# Altium footprint library 58.13.0093_400_Rev00.PcbLib: 46 footprints (part 3 of 3)
Each footprint in its own frame and in the unit in brackets; x right, y up, seen from the top. Pads: shape width x height; smd on the part's side, far side on the other; paste and mask are expansions set on the pad; w line width, h text height; cw(c..) or ccw(c..) is an arc to the next point about the centre after c.
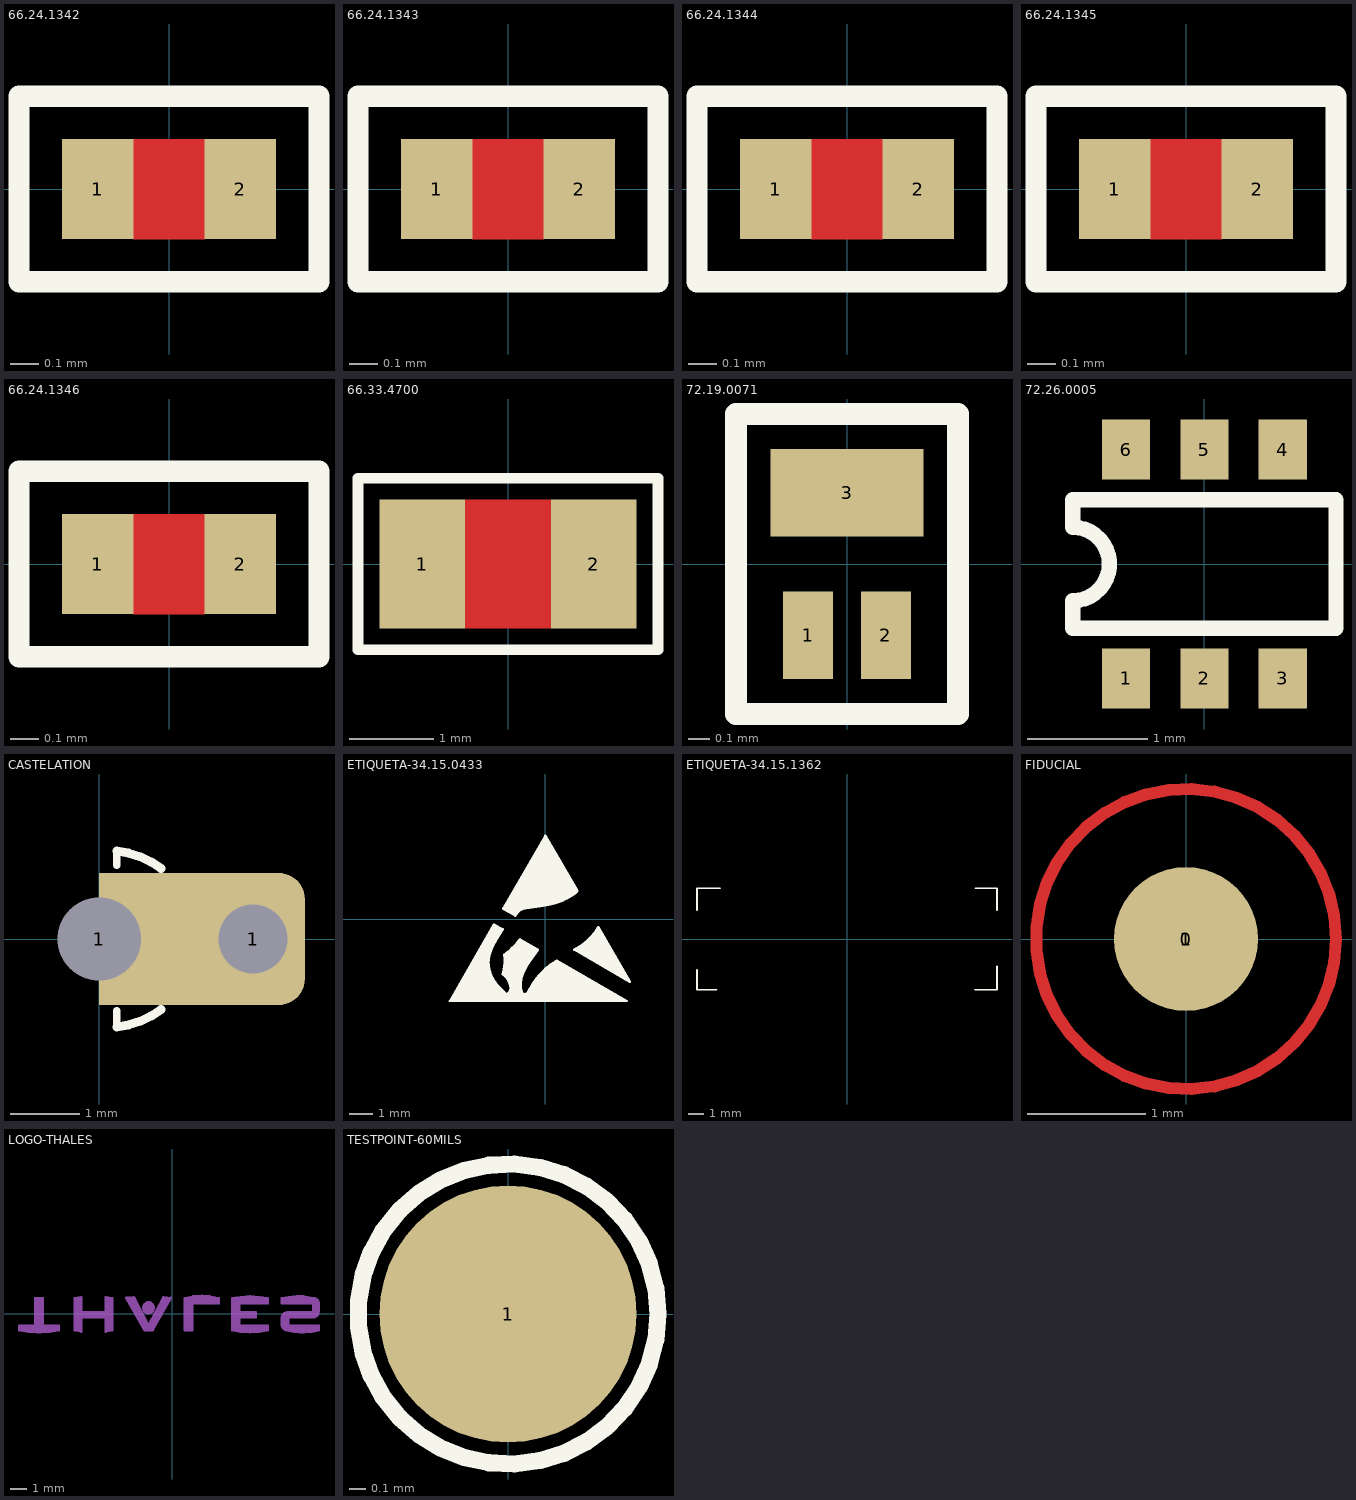
[diagram p2: the footprints below, top view; thin cyan lines are the x and y axes]

## 66.24.1342 [mil]
pads (2):
  rect 10x14 smd: 1(-10,0) 2(10,0)
Top Layer:
  pour cut-out: -5,7 5,7 5,-7 -5,-7
Top Overlay:
  lines w3: -21,-13 21,-13 21,13 -21,13 -21,-13
3D body "0201 Res.step": height 12.1, standoff 0, extent -11.99,-6 12.01,6

## 66.24.1343 [mil]
pads (2):
  rect 10x14 smd: 1(-10,0) 2(10,0)
Top Layer:
  pour cut-out: -5,7 5,7 5,-7 -5,-7
Top Overlay:
  lines w3: -21,-13 -21,13 21,13 21,-13 -21,-13
3D body "0201 Res.step": height 12.1, standoff 0, extent -11.99,-6 12.01,6

## 66.24.1344 [mil]
pads (2):
  rect 10x14 smd: 1(-10,0) 2(10,0)
Top Layer:
  pour cut-out: -5,7 5,7 5,-7 -5,-7
Top Overlay:
  lines w3: -21,-13 21,-13 21,13 -21,13 -21,-13
3D body "0201 Res.step": height 12.1, standoff 0, extent -11.99,-6 12.01,6

## 66.24.1345 [mil]
pads (2):
  rect 10x14 smd: 1(-10,0) 2(10,0)
Top Layer:
  pour cut-out: -5,7 5,7 5,-7 -5,-7
Top Overlay:
  lines w3: -21,-13 -21,13 21,13 21,-13 -21,-13
3D body "0201 Res.step": height 12.1, standoff 0, extent -11.99,-6 12.01,6

## 66.24.1346 [mil]
pads (2):
  rect 10x14 smd: 1(-10,0) 2(10,0)
Top Layer:
  pour cut-out: -5,7 5,7 5,-7 -5,-7
Top Overlay:
  lines w3: -21,-13 21,-13 21,13 -21,13 -21,-13
3D body "0201 Res.step": height 12.1, standoff 0, extent -11.99,-6 12.01,6

## 66.33.4700 [mil]
pads (2):
  rect 40x60 smd: 1(-40,0) 2(40,0)
Top Layer:
  pour cut-out: -20,30 20,30 20,-30 -20,-30
Top Overlay:
  lines w5: -70,-40 70,-40 70,40 -70,40 -70,-40
3D body "User Library-0805 SMD Resistor.step": height 30.79, standoff 0, extent -39.37,-24.71 39.37,24.5

## 72.19.0071 [mm]
pads (3):
  rect 0.229x0.4 smd: 1(-0.178,-0.325) 2(0.178,-0.325)
  rect 0.7x0.4 smd: 3(0,0.325)
Top Overlay:
  lines w0.102: -0.508,-0.686 0.508,-0.686 0.508,0.686 -0.508,0.686 -0.508,-0.686
3D body: height 0.4, standoff 0, extent -0.3,-0.5 0.3,0.5

## 72.26.0005 [mm]
pads (6):
  rect 0.4x0.5 smd: 1(-0.65,-0.95) 2(0,-0.95) 3(0.65,-0.95) 4(0.65,0.95) 5(0,0.95) 6(-0.65,0.95)
Top Overlay:
  lines w0.127: -1.092,-0.533 1.092,-0.533 1.092,0.533 -1.092,0.533 -1.092,0.305 cw(c-1.092,0) -1.092,-0.305 -1.092,-0.533
3D body "SOT363-SC.step": height 0.96, standoff -0.03, extent -1,-1.05 1,1.05

## CASTELATION [mm]
pads (2):
  rect 2.286x1.905 hole 1.2 copper offset 1.143,0: 1(0,0)
  rrect50% 1.5x1.905 hole 1: 1(2.22,0)
Top Overlay:
  lines w0.114: 0.254,-1.27 0.254,-1.041 ; 0.254,1.067 0.254,1.27
  lines w0.127: 0.254,-1.27 ccw(c0.12,0) 0.891,-1.018 ; 0.254,1.27 cw(c0.12,0) 0.891,1.018

## ETIQUETA-34.15.0433 [mm]
Top Overlay:
  drawing of 2006 lines, arcs and shapes, not listed

## ETIQUETA-34.15.1362 [mm]
Top Overlay:
  lines w0.102: -9.6,-1.98 -9.6,-3.25 -8.33,-3.25 ; -9.6,1.83 -9.6,3.25 -8.099,3.25 ; 8.18,-3.25 9.6,-3.25 9.6,-1.749 ; 8.203,3.25 9.6,3.25 9.6,1.853

## FIDUCIAL [mil]
pads (2):
  round 48 smd: 0(0,0)
  round 100 on Top Solder: 1(0,0)
Top Layer:
  circle w4: c0,0 r50

## LOGO-THALES [mm]
Bottom Overlay:
  drawing of 470 lines, arcs and shapes, not listed

## TESTPOINT-60MILS [mil]
pads (1):
  round 60 smd: 1(0,0)
Top Overlay:
  circle w4: c0,0 r35